# Altium schematic symbol library CSD18540Q5B.SchLib: 1 symbol
Pins are listed as number, name and electrical type; pins without a type are passive.

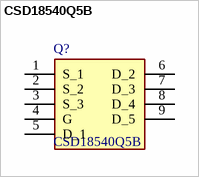
[diagram p0: symbol CSD18540Q5B]

## CSD18540Q5B
designator Q?
MOSFET 60V, N-channel NexFET Pwr MOSFET; Manufacturer_Name: Texas Instruments; Geometry.Height: 1.05mm; RS Part Number: *; RS Price/Stock: *; Manufacturer_Part_Number: CSD18540Q5B; Datasheet Link: https://www.ti.com/lit/ds/symlink/csd18540q5b.pdf?ts=1669951210192&ref_url=https%253A%252F%252Fcomponentsearchengine.com%252F
footprint CSD18540Q5B
pins: 1 S_1, 2 S_2, 3 S_3, 4 G, 5 D_1, 6 D_2, 7 D_3, 8 D_4, 9 D_5